# Altium schematic symbol library Conn_Molex_22-23-2061_eec.SchLib: 1 symbol
Pins are listed as number, name and electrical type; pins without a type are passive.

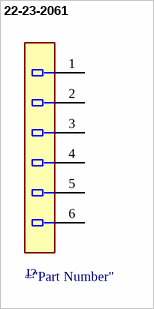
[diagram p0: symbol 22-23-2061]

## 22-23-2061
designator J?  (value not drawn)
pins: 1, 2, 3, 4, 5, 6